# Altium integrated library Maxim_Integrated_MOSFET_Drivers.IntLib: 1 symbol
Pins are listed as number, name and electrical type; pins without a type are passive.

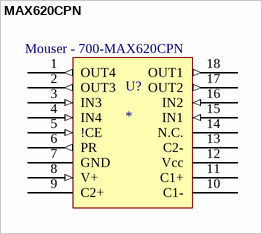
[diagram p0: symbol MAX620CPN]

## MAX620CPN
designator U?  Supplier Part Number 1: Mouser - 700-MAX620CPN
Supplier 1: Octopart
footprint DIP-18 (Footprint not found)
pins: 1 OUT4 (out), 2 OUT3 (out), 3 IN3 (in), 4 IN4 (in), 5 !CE (in), 6 PR (out), 7 GND (power), 8 V+ (in), 9 C2+, 10 C1-, 11 C1+, 12 Vcc (power), 13 C2-, 14 N.C. "No connection", 15 IN1 (in), 16 IN2 (in), 17 OUT2 (out), 18 OUT1 (out)